# EAGLE library part MAX2830 (library CPSBoard)
The MAX2830 direct conversion, zero-IF, RF transceiver is designed specifically for 2.4GHz to 2.5GHz 802.11g/b WLAN applications. The MAX2830 completely integrates all circuitry required to implement the RF transceiver function, providing an RF power amplifier (PA), an Rx/Tx and antenna diversity switch, RF-to-baseband receive path, baseband-to-RF transmit path, voltage-controlled oscillator (VCO), frequency synthesizer, crystal oscillator, and baseband/control interface. The MAX2830 includes a fast-settling sigma-delta RF synthesizer with smaller than 20Hz frequency steps and a digitally tuned crystal oscillator allowing use of a low-cost crystal. No I/Q calibration is required; however, the device also integrates on-chip DC-offset cancellation and I/Q errors and carrier leakage-detection circuits for improved performance. Only an RF bandpass filter (BPF), crystal, a pair of baluns, and a small number of passive components are needed to form a complete 802.11g/b WLAN RF front-end solution. http://www.maxim-ic.com/datasheet/index.mvp/id/5367/t/al http://datasheets.maxim-ic.com/en/ds/MAX2830.pdf
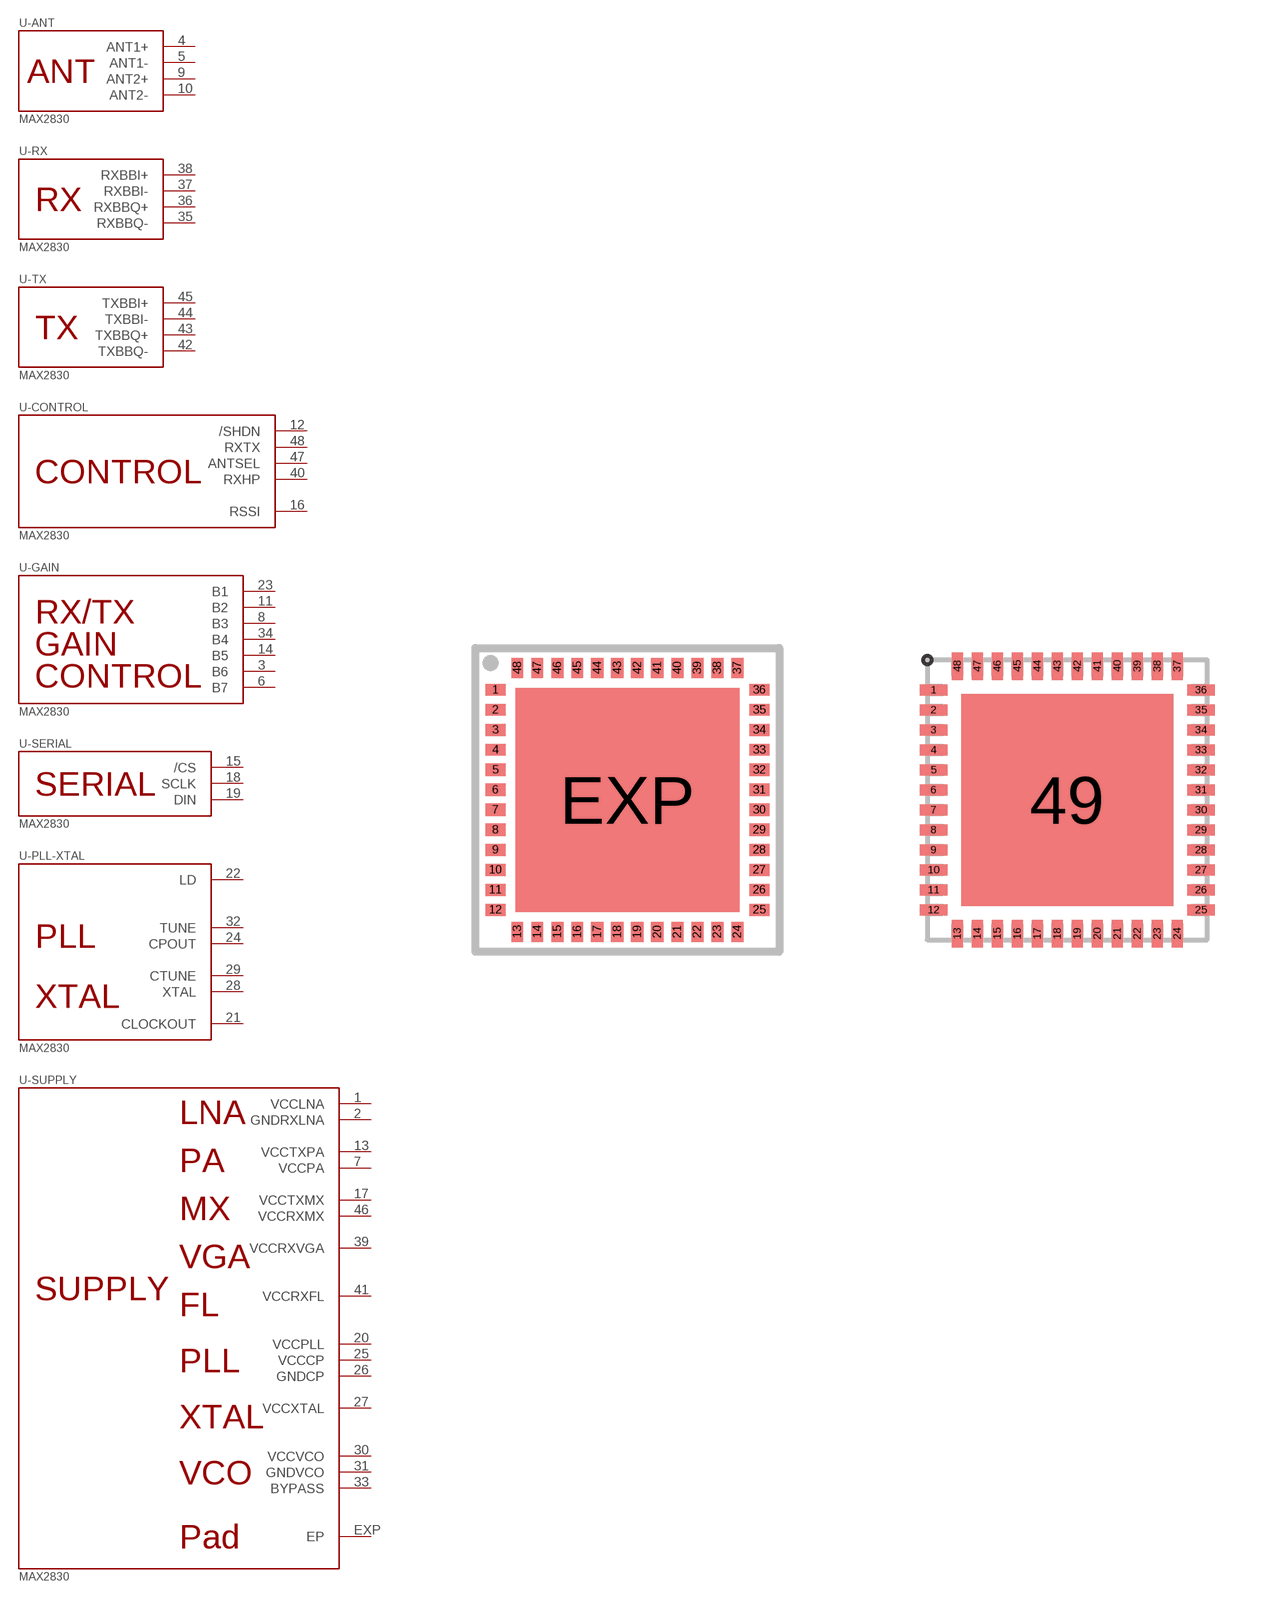
[diagram p2: symbol with the pads of TQFN48-T4877+4; footprints TQFN48-T4877+4, VQFN-48]

Designator prefix -; gates -ANT=MAX2830-ANT -RX=MAX2830-RX -TX=MAX2830-TX -CONTROL=MAX2839-CONTROL -GAIN=MAX2830-RX/TX-GAIN-CONTROL -SERIAL=MAX2830-SERIAL -PLL-XTAL=MAX2830-XTAL-PLL -SUPPLY=MAX2830-SUPPLY

## MAX2830BB  [TQFN48-T4877+4]
1  -SUPPLY:VCCLNA  sup
2  -SUPPLY:GNDRXLNA  sup
3  -GAIN:B6  in
4  -ANT:ANT1+
5  -ANT:ANT1-
6  -GAIN:B7  in
7  -SUPPLY:VCCPA  sup
8  -GAIN:B3  in
9  -ANT:ANT2+
10  -ANT:ANT2-
11  -GAIN:B2  in
12  -CONTROL:/SHDN  in
13  -SUPPLY:VCCTXPA  sup
14  -GAIN:B5  in
15  -SERIAL:/CS  in
16  -CONTROL:RSSI  out
17  -SUPPLY:VCCTXMX  sup
18  -SERIAL:SCLK  in
19  -SERIAL:DIN  in
20  -SUPPLY:VCCPLL  sup
21  -PLL-XTAL:CLOCKOUT  out
22  -PLL-XTAL:LD  out
23  -GAIN:B1  in
24  -PLL-XTAL:CPOUT  out
25  -SUPPLY:VCCCP  sup
26  -SUPPLY:GNDCP  sup
27  -SUPPLY:VCCXTAL  sup
28  -PLL-XTAL:XTAL  in
29  -PLL-XTAL:CTUNE  in
30  -SUPPLY:VCCVCO  sup
31  -SUPPLY:GNDVCO  sup
32  -PLL-XTAL:TUNE  in
33  -SUPPLY:BYPASS  sup
34  -GAIN:B4  in
35  -RX:RXBBQ-  out
36  -RX:RXBBQ+  out
37  -RX:RXBBI-  out
38  -RX:RXBBI+  out
39  -SUPPLY:VCCRXVGA  sup
40  -CONTROL:RXHP  in
41  -SUPPLY:VCCRXFL  sup
42  -TX:TXBBQ-  in
43  -TX:TXBBQ+  in
44  -TX:TXBBI-  in
45  -TX:TXBBI+  in
46  -SUPPLY:VCCRXMX  sup
47  -CONTROL:ANTSEL  in
48  -CONTROL:RXTX  in
EXP  -SUPPLY:EP  sup

## MAX2830IPC-7351  [VQFN-48]
1  -SUPPLY:VCCLNA  sup
2  -SUPPLY:GNDRXLNA  sup
3  -GAIN:B6  in
4  -ANT:ANT1+
5  -ANT:ANT1-
6  -GAIN:B7  in
7  -SUPPLY:VCCPA  sup
8  -GAIN:B3  in
9  -ANT:ANT2+
10  -ANT:ANT2-
11  -GAIN:B2  in
12  -CONTROL:/SHDN  in
13  -SUPPLY:VCCTXPA  sup
14  -GAIN:B5  in
15  -SERIAL:/CS  in
16  -CONTROL:RSSI  out
17  -SUPPLY:VCCTXMX  sup
18  -SERIAL:SCLK  in
19  -SERIAL:DIN  in
20  -SUPPLY:VCCPLL  sup
21  -PLL-XTAL:CLOCKOUT  out
22  -PLL-XTAL:LD  out
23  -GAIN:B1  in
24  -PLL-XTAL:CPOUT  out
25  -SUPPLY:VCCCP  sup
26  -SUPPLY:GNDCP  sup
27  -SUPPLY:VCCXTAL  sup
28  -PLL-XTAL:XTAL  in
29  -PLL-XTAL:CTUNE  in
30  -SUPPLY:VCCVCO  sup
31  -SUPPLY:GNDVCO  sup
32  -PLL-XTAL:TUNE  in
33  -SUPPLY:BYPASS  sup
34  -GAIN:B4  in
35  -RX:RXBBQ-  out
36  -RX:RXBBQ+  out
37  -RX:RXBBI-  out
38  -RX:RXBBI+  out
39  -SUPPLY:VCCRXVGA  sup
40  -CONTROL:RXHP  in
41  -SUPPLY:VCCRXFL  sup
42  -TX:TXBBQ-  in
43  -TX:TXBBQ+  in
44  -TX:TXBBI-  in
45  -TX:TXBBI+  in
46  -SUPPLY:VCCRXMX  sup
47  -CONTROL:ANTSEL  in
48  -CONTROL:RXTX  in
49  -SUPPLY:EP  sup

## Footprint TQFN48-T4877+4 (pad centres in mm)
48 TQFN-EP T4877+4 7x7 mm http://pdfserv.maxim-ic.com/package_dwgs/21-0144.PDF
smd 0.5 x 0.3: 1 -3.3,2.75; 2 -3.3,2.25; 3 -3.3,1.75; 4 -3.3,1.25; 5 -3.3,0.75; 6 -3.3,0.25; 7 -3.3,-0.25; 8 -3.3,-0.75; 9 -3.3,-1.25; 10 -3.3,-1.75; 11 -3.3,-2.25; 12 -3.3,-2.75; 25 3.3,-2.75; 26 3.3,-2.25; 27 3.3,-1.75; 28 3.3,-1.25; 29 3.3,-0.75; 30 3.3,-0.25; 31 3.3,0.25; 32 3.3,0.75; 33 3.3,1.25; 34 3.3,1.75; 35 3.3,2.25; 36 3.3,2.75
smd 0.3 x 0.5: 13 -2.75,-3.3; 14 -2.25,-3.3; 15 -1.75,-3.3; 16 -1.25,-3.3; 17 -0.75,-3.3; 18 -0.25,-3.3; 19 0.25,-3.3; 20 0.75,-3.3; 21 1.25,-3.3; 22 1.75,-3.3; 23 2.25,-3.3; 24 2.75,-3.3; 37 2.75,3.3; 38 2.25,3.3; 39 1.75,3.3; 40 1.25,3.3; 41 0.75,3.3; 42 0.25,3.3; 43 -0.25,3.3; 44 -0.75,3.3; 45 -1.25,3.3; 46 -1.75,3.3; 47 -2.25,3.3; 48 -2.75,3.3
smd 5.6 x 5.6: EXP 0,0

## Footprint VQFN-48 (pad centres in mm)
VQFN-48 48-pin VQFN package with exposed pad.
smd 0.69 x 0.28: 1 -3.345,2.75; 2 -3.345,2.25; 3 -3.345,1.75; 4 -3.345,1.25; 5 -3.345,0.75; 6 -3.345,0.25; 7 -3.345,-0.25; 8 -3.345,-0.75; 9 -3.345,-1.25; 10 -3.345,-1.75; 11 -3.345,-2.25; 12 -3.345,-2.75; 25 3.345,-2.75; 26 3.345,-2.25; 27 3.345,-1.75; 28 3.345,-1.25; 29 3.345,-0.75; 30 3.345,-0.25; 31 3.345,0.25; 32 3.345,0.75; 33 3.345,1.25; 34 3.345,1.75; 35 3.345,2.25; 36 3.345,2.75
smd 0.28 x 0.69: 13 -2.75,-3.345; 14 -2.25,-3.345; 15 -1.75,-3.345; 16 -1.25,-3.345; 17 -0.75,-3.345; 18 -0.25,-3.345; 19 0.25,-3.345; 20 0.75,-3.345; 21 1.25,-3.345; 22 1.75,-3.345; 23 2.25,-3.345; 24 2.75,-3.345; 37 2.75,3.345; 38 2.25,3.345; 39 1.75,3.345; 40 1.25,3.345; 41 0.75,3.345; 42 0.25,3.345; 43 -0.25,3.345; 44 -0.75,3.345; 45 -1.25,3.345; 46 -1.75,3.345; 47 -2.25,3.345; 48 -2.75,3.345
smd 5.3 x 5.3: 49 0,0